# EAGLE library part ARDUINO_NANO (library sc_usercreated)
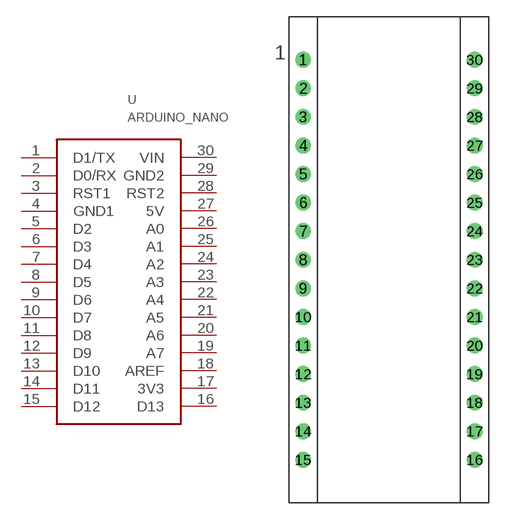
[diagram p20: symbol with the pads of ARDUINO_NANO; footprint ARDUINO_NANO]

Designator prefix U

## ARDUINO_NANO  [ARDUINO_NANO]
1  D1/TX
2  D0/RX
3  RST1
4  GND1
5  D2
6  D3
7  D4
8  D5
9  D6
10  D7
11  D8
12  D9
13  D10
14  D11
15  D12
16  D13
17  3V3
18  AREF
19  A7
20  A6
21  A5
22  A4
23  A3
24  A2
25  A1
26  A0
27  5V
28  RST2
29  GND2
30  VIN

## Footprint ARDUINO_NANO (pad centres in mm)
drill 0.9 round: 1 -7.62,17.78; 2 -7.62,15.24; 3 -7.62,12.7; 4 -7.62,10.16; 5 -7.62,7.62; 6 -7.62,5.08; 7 -7.62,2.54; 8 -7.62,0; 9 -7.62,-2.54; 10 -7.62,-5.08; 11 -7.62,-7.62; 12 -7.62,-10.16; 13 -7.62,-12.7; 14 -7.62,-15.24; 15 -7.62,-17.78; 16 7.62,-17.78; 17 7.62,-15.24; 18 7.62,-12.7; 19 7.62,-10.16; 20 7.62,-7.62; 21 7.62,-5.08; 22 7.62,-2.54; 23 7.62,0; 24 7.62,2.54; 25 7.62,5.08; 26 7.62,7.62; 27 7.62,10.16; 28 7.62,12.7; 29 7.62,15.24; 30 7.62,17.78